# Altium footprint library EVAL-CN0349-PMDZ-AltiumDesigner LibraryLayout.PcbLib: 14 footprints
Each footprint in its own frame and in the unit in brackets; x right, y up, seen from the top. Pads: shape width x height; smd on the part's side, far side on the other; paste and mask are expansions set on the pad; w line width, h text height; cw(c..) or ccw(c..) is an arc to the next point about the centre after c.
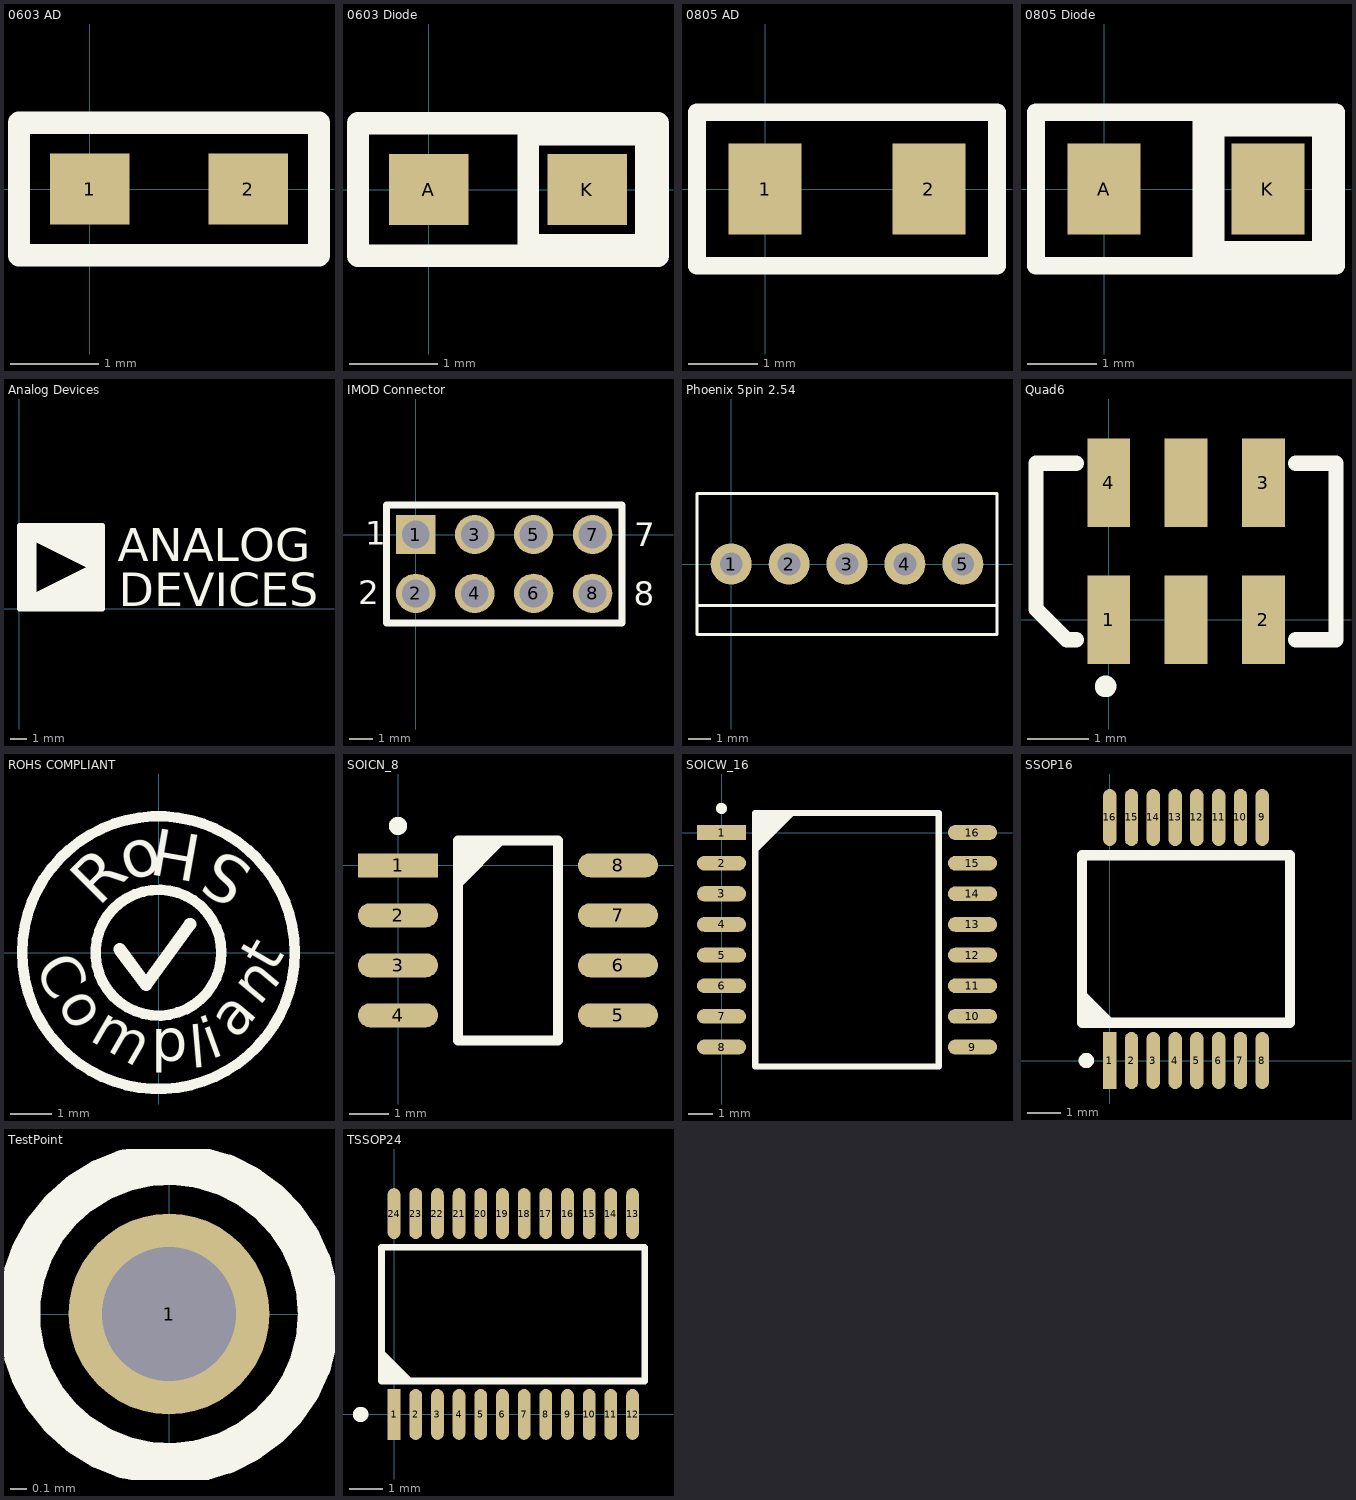
[diagram p0: the footprints below, top view; thin cyan lines are the x and y axes]

## 0603 AD [mm]
pads (2):
  rect 0.9x0.8 smd: 1(0,0) 2(1.8,0)
Top Overlay:
  lines w0.254: -0.8,-0.75 2.6,-0.75 2.6,0.75 -0.8,0.75 -0.8,-0.75

## 0603 Diode [mm]
pads (2):
  rect 0.9x0.8 smd: A(0,0) K(1.8,0)
Top Overlay:
  rectangle: 1.19,-0.75 2.6,-0.502
  rectangle: 2.341,-0.75 2.6,0.762
  rectangle: 1.213,0.5 2.6,0.75
  rectangle: 1.01,-0.75 1.253,0.75
  lines w0.254: -0.8,-0.75 2.6,-0.75 2.6,0.75 -0.8,0.75 -0.8,-0.75

## 0805 AD [mm]
pads (2):
  rect 1.05x1.3 smd: 1(0,0) 2(2.35,0)
Top Overlay:
  lines w0.254: -0.975,-1.1 3.325,-1.1 3.325,1.1 -0.975,1.1 -0.975,-1.1

## 0805 Diode [mm]
pads (2):
  rect 1.05x1.3 smd: A(0,0) K(2.35,0)
Top Overlay:
  rectangle: 1.271,-1.1 1.726,1.1
  rectangle: 1.657,0.752 3.325,1.1
  rectangle: 2.979,-1.1 3.325,0.859
  rectangle: 1.368,-1.1 3.017,-0.746
  lines w0.254: -0.975,-1.1 3.325,-1.1 3.325,1.1 -0.975,1.1 -0.975,-1.1

## Analog Devices [mm]
Top Overlay:
  region: 1.016,1.016 1.016,4.064 -0.025,4.064 0.025,1.016
  region: 1.016,4.064 4.064,2.54 5.105,2.515 5.105,5.08 -0.025,5.105 0,3.658
  region: 1.016,1.016 4.064,2.54 5.055,2.565 5.055,0.051 0,0.025 0,1.626
  lines w0.305: 0,0 0,5.08 5.08,5.08 5.08,0.025 5.055,0 0,0
  text "ANALOG" at 5.994,2.896 h2.03
  text "DEVICES" at 6.045,0.152 h2.06

## IMOD Connector [mm]
pads (8):
  rect 1.7x1.7 hole 1.2: 1(0,0)
  round 1.7 hole 1.2: 2(0,-2.54) 3(2.54,0) 4(2.54,-2.54) 5(5.08,0) 6(5.08,-2.54) 7(7.62,0) 8(7.62,-2.54)
Top Overlay:
  lines w0.305: -1.27,-3.812 8.89,-3.81 8.89,1.27 0,1.27 -1.27,1.27 -1.27,0 -1.27,-3.81
  text "1" at -2.184,-0.432 h1.02
  text "2" at -2.489,-2.997 h1.02
  text "7" at 9.423,-0.508 h1.02
  text "8" at 9.398,-3.048 h1.02

## Phoenix 5pin 2.54 [mm]
pads (5):
  round 1.8 hole 1: 1(0,0) 2(2.54,0) 3(5.08,0) 4(7.62,0) 5(10.16,0)
Top Overlay:
  lines w0.127: -1.5,-3.1 -1.5,3.1 ; -1.483,3.1 11.659,3.1 ; -1.48,-3.1 11.659,-3.1 ; -1.455,-1.817 11.659,-1.817 ; 11.66,-3.1 11.66,3.1

## Quad6 [mm]
pads (6):
  rect 0.7x1.45 smd: 1(0,0) 2(2.54,0) 3(2.54,2.25) 4(0,2.25) ""(1.27,0) ""(1.27,2.25)
Top Overlay:
  circle w0.254: c-0.05,-1.092 r0.05
  lines w0.254: -0.533,-0.33 -0.686,-0.33 -1.191,0.175 -1.191,2.572 -0.533,2.572 ; 3.073,-0.33 3.731,-0.33 3.731,2.572 3.073,2.572

## ROHS COMPLIANT [mm]
Top Overlay:
  circle w0.254: c0,0 r3.302
  circle w0.254: c0,0 r1.524
  lines w0.305: -0.938,0.077 -0.301,-0.779 0.762,0.686
  text "t" at 2.794,-0.508 h1.02
  text "n" at 2.438,-1.321 h1.02
  text "a" at 1.88,-2.134 h1.02
  text "i" at 1.27,-2.591 h1.02
  text "l" at 0.787,-2.794 h1.02
  text "p" at -0.178,-2.616 h1.02
  text "m" at -1.702,-2.108 h1.02
  text "o" at -2.464,-1.219 h1.02
  text "C" at -3.023,-0.381 h1.02
  text "R" at -1.448,1.092 h1.14
  text "o" at -0.737,1.702 h1.14
  text "H" at 1.092,2.819 h1.14
  text "S" at 2.337,2.032 h1.14

## SOICN_8 [mil]
pads (8):
  rect 80x24 smd: 1(0,0)
  oval 80x24 smd: 2(0,-50) 3(0,-100) 4(0,-150) 5(220,-150) 6(220,-100) 7(220,-50) 8(220,0)
Top Overlay:
  circle w11.81: c0,39.37 r3.15
  region: 65.01,-19.31 104.4,20.09 65.01,20.09
  lines w10: 60,-175 60,25 135,25 160,25 160,-175 60,-175

## SOICW_16 [mil]
pads (16):
  rect 80x24 smd: 1(0,0)
  oval 80x24 smd: 2(0,-50) 4(0,-150) 5(0,-200) 6(0,-250) 7(0,-300) 8(0,-350) 9(409.45,-350) 10(409.45,-300) 11(409.45,-250) 12(409.45,-200) 13(409.45,-150) 14(409.45,-100) 15(409.45,-50) 16(409.45,0)
  oval 80x25 smd: 3(0,-100)
Top Overlay:
  circle w11.81: c0,39.37 r3.15
  region: 55.12,-34.55 121.01,31.69 55.12,31.69
  lines w10: 55.12,-381.69 55.12,31.69 354.33,31.69 354.33,-381.69 55.12,-381.69

## SSOP16 [mm]
pads (16):
  rect 0.4x1.7 smd: 1(0,0)
  oval 0.4x1.7 smd: 2(0.65,0) 3(1.3,0) 4(1.95,0) 5(2.6,0) 6(3.25,0) 7(3.9,0) 8(4.55,0) 9(4.55,7.25) 10(3.9,7.25) 11(3.25,7.25) 12(2.6,7.25) 13(1.95,7.25) 14(1.3,7.25) 15(0.65,7.25) 16(0,7.25)
Top Overlay:
  circle w0.3: c-0.7,0 r0.08
  region: 0.153,1.174 -0.785,2.114 -0.786,2.114 -0.786,1.312 -0.384,1.174
  lines w0.305: -0.825,1.125 -0.825,6.125 5.374,6.125 5.374,1.125 -0.825,1.125

## TestPoint [mil]
pads (1):
  round 48 hole 32: 1(0,0)
Top Overlay:
  circle w10: c0,0 r35.85

## TSSOP24 [mil]
pads (24):
  rect 15x60 smd: 1(0,0)
  oval 15x60 smd: 2(25.59,0) 3(51.18,0) 4(76.77,0) 5(102.36,0) 6(127.95,0) 7(153.54,0) 8(179.13,0) 9(204.72,0) 10(230.31,0) 11(255.91,0) 12(281.5,0) 13(281.5,237) 14(255.91,237) 15(230.31,237) 16(204.72,237) 17(179.13,237.01) 18(153.54,237.01) 19(127.95,237.01) 20(102.36,237.01) 21(76.77,237.01) 22(51.18,237.01) 23(25.59,237.01) 24(0,237.01)
Top Overlay:
  circle w11.81: c-39.37,0 r3.15
  region: 24.72,38.3 -12.21,75.29 -12.25,75.29 -12.25,43.71 3.58,38.3
  lines w7.87: -14.76,196.5 -14.76,39.5 295.75,39.5 295.75,197.24 -14.76,197.24